# EAGLE library part DAC7565 (library TI)
12 Bit, Quad Channel, Voltage Output DAC
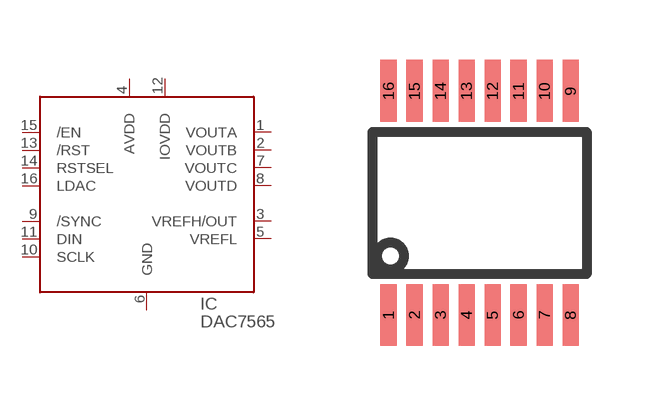
[diagram p25: symbol with the pads of MSOP16; footprint MSOP16]

Designator prefix IC

## DAC7565PW  [MSOP16]
1  VOUTA
2  VOUTB
3  VREFH/OUT
4  AVDD  pwr
5  VREFL
6  GND  pwr
7  VOUTC
8  VOUTD
9  /SYNC
10  SCLK
11  DIN
12  IOVDD  pwr
13  /RST
14  RSTSEL
15  /EN
16  LDAC

## Footprint MSOP16 (pad centres in mm)
smd 0.4 x 1.55: 1 -2.275,-2.8; 2 -1.625,-2.8; 3 -0.975,-2.8; 4 -0.325,-2.8; 5 0.325,-2.8; 6 0.975,-2.8; 7 1.625,-2.8; 8 2.275,-2.8; 9 2.275,2.8; 10 1.625,2.8; 11 0.975,2.8; 12 0.325,2.8; 13 -0.325,2.8; 14 -0.975,2.8; 15 -1.625,2.8; 16 -2.275,2.8